# Altium footprint library IRF540NPBF.PcbLib: 2 footprints
Each footprint in its own frame and in the unit in brackets; x right, y up, seen from the top. Pads: shape width x height; smd on the part's side, far side on the other; paste and mask are expansions set on the pad; w line width, h text height; cw(c..) or ccw(c..) is an arc to the next point about the centre after c.
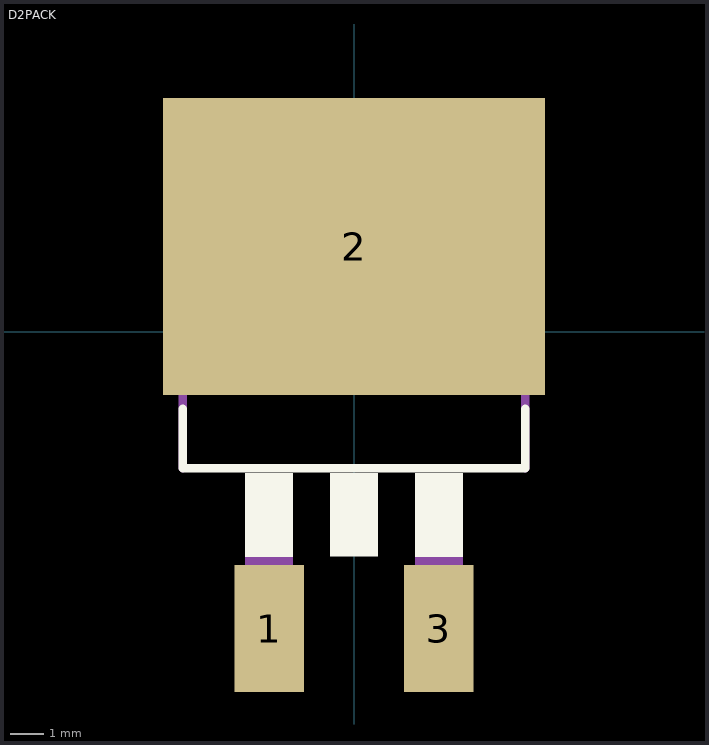
[diagram p0: the footprints below, top view; thin cyan lines are the x and y axes]

## D2PACK [mil]
pads (3):
  rect 82x150 smd: 1(-100,-350) 3(100,-350)
  rect 450x350 smd: 2(0,100)
Top Overlay:
  region: -28.01,-167 28,-167 28,-265.07 -28.01,-265.07
  region: 72.13,-167 128,-167 128,-265.46 72.13,-265.46
  region: -128.15,-167 -72,-167 -72,-265.3 -128.15,-265.3
  lines w10: -202,-91 -202,-161 202,-161 202,-91
Mechanical 4:
  region: 72.05,-265 128,-265 128,-321.2 72.05,-321.2
  region: 78.06,-319 122,-319 122,-375.31 78.06,-375.31
  region: -128.2,-265 -72,-265 -72,-321.49 -128.2,-321.49
  region: -122.2,-319 -78,-319 -78,-375.61 -122.2,-375.61
  region: 72.05,-265 128,-265 128,-321.2 72.05,-321.2
  region: 78.06,-319 122,-319 122,-375.31 78.06,-375.31
  region: -128.2,-265 -72,-265 -72,-321.49 -128.2,-321.49
  region: -122.2,-319 -78,-319 -78,-375.61 -122.2,-375.61
  lines w10: -202,175 202,175 ; -202,175 -202,-161 -202,175 ; -202,175 -202,185 ; -202,175 202,175 ; -202,175 -202,185 ; -202,185 -133,229 ; -202,185 -133,229 ; -133,229 123,229 ; -133,229 123,229 ; 123,229 202,175 ; 123,229 202,175 ; 202,175 202,-161 202,175

## PCBComponent_1 [mil]